# EAGLE library part SELECTOR_SWITCH (library Project)
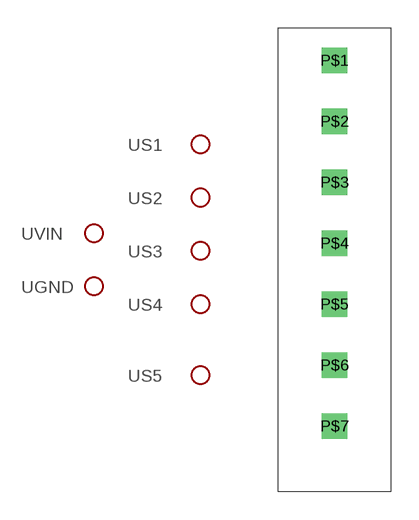
[diagram p2: symbol with the pads of SELECTOR_SWITCH; footprint SELECTOR_SWITCH]

Designator prefix -; gates VIN=SWITCH_PWR GND=SWITCH_PWR S1=SWITCH_SIGNAL S2=SWITCH_SIGNAL S3=SWITCH_SIGNAL S4=SWITCH_SIGNAL S5=SWITCH_SIGNAL

## SELECTOR_SWITCH  [SELECTOR_SWITCH]
P$1  VIN:PWR
P$2  GND:PWR
P$3  S1:PWR
P$4  S2:PWR
P$5  S3:PWR
P$6  S4:PWR
P$7  S5:PWR

## Footprint SELECTOR_SWITCH (pad centres in mm)
drill 0.889 square: P$1 0,12.7; P$2 0,9.398; P$3 0,6.096; P$4 0,2.794; P$5 0,-0.508; P$6 0,-3.81; P$7 0,-7.112